# EAGLE library part TERASIC_GPIO (library Ex_Connector)
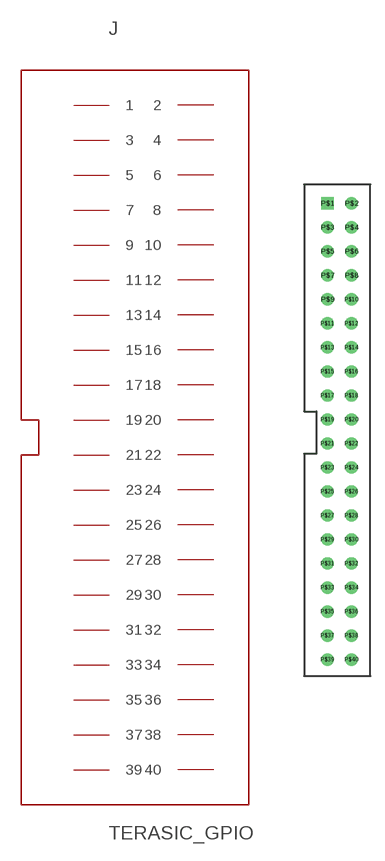
[diagram p0: symbol with the pads of 2X20(2.54MM); footprint 2X20(2.54MM)]

Designator prefix J

## TERASIC_GPIO_2.54  [2X20(2.54MM)]
P$1  1
P$2  2
P$3  3
P$4  4
P$5  5
P$6  6
P$7  7
P$8  8
P$9  9
P$10  10
P$11  11
P$12  12
P$13  13
P$14  14
P$15  15
P$16  16
P$17  17
P$18  18
P$19  19
P$20  20
P$21  21
P$22  22
P$23  23
P$24  24
P$25  25
P$26  26
P$27  27
P$28  28
P$29  29
P$30  30
P$31  31
P$32  32
P$33  33
P$34  34
P$35  35
P$36  36
P$37  37
P$38  38
P$39  39
P$40  40

## Footprint 2X20(2.54MM) (pad centres in mm)
drill 0.8 square: P$1 -2.54,0
drill 0.8: P$2 0,0; P$3 -2.54,-2.54; P$4 0,-2.54; P$5 -2.54,-5.08; P$6 0,-5.08; P$7 -2.54,-7.62; P$8 0,-7.62; P$9 -2.54,-10.16; P$10 0,-10.16; P$11 -2.54,-12.7; P$12 0,-12.7; P$13 -2.54,-15.24; P$14 0,-15.24; P$15 -2.54,-17.78; P$16 0,-17.78; P$17 -2.54,-20.32; P$18 0,-20.32; P$19 -2.54,-22.86; P$20 0,-22.86; P$21 -2.54,-25.4; P$22 0,-25.4; P$23 -2.54,-27.94; P$24 0,-27.94; P$25 -2.54,-30.48; P$26 0,-30.48; P$27 -2.54,-33.02; P$28 0,-33.02; P$29 -2.54,-35.56; P$30 0,-35.56; P$31 -2.54,-38.1; P$32 0,-38.1; P$33 -2.54,-40.64; P$34 0,-40.64; P$35 -2.54,-43.18; P$36 0,-43.18; P$37 -2.54,-45.72; P$38 0,-45.72; P$39 -2.54,-48.26; P$40 0,-48.26